# EAGLE library part MA07107 (library golledge)
SAW Filter Example 169MHz Datasheet and Purchasing Information <http://www.golledge.com/docs/products/saw/gsrf_list.htm?src=eagle>
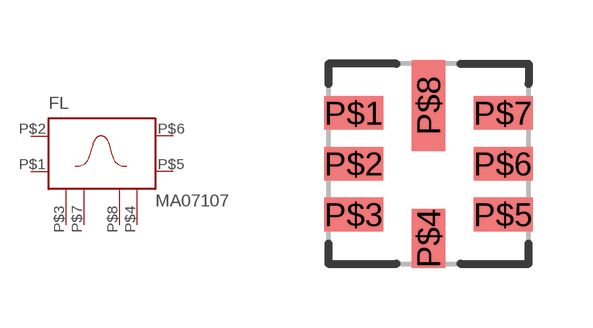
[diagram p2: symbol with the pads of SAW5X5; footprint SAW5X5]

Designator prefix FL

## MA07107 (HEIGHT: 1.7)  [SAW5X5]
P$1  INBAR_OR_GND  pas
P$2  IN  pas
P$3  CASE  pas
P$4  CASE  pas
P$5  OUTBAR_OR_GND  pas
P$6  OUT  pas
P$7  P$1  pas
P$8  P$2  pas

## Footprint SAW5X5 (pad centres in mm)
5 mm square package for SAW filters, 8 pads.
smd 1.47 x 0.84: P$1 -1.865,1.27; P$2 -1.865,0; P$3 -1.865,-1.27; P$5 1.865,-1.27; P$6 1.865,0; P$7 1.865,1.27
smd 0.84 x 1.47: P$4 0,-1.865
smd 0.84 x 2.28: P$8 0,1.46